# EAGLE library part NTGD3148N (library Discrete Semi - FETs - Arrays)
MOSFET 2N-CH 20V 3A 6TSOP 20 V, 3.5A, Dual N-Channel, TSOP-6 www.onsemi.com
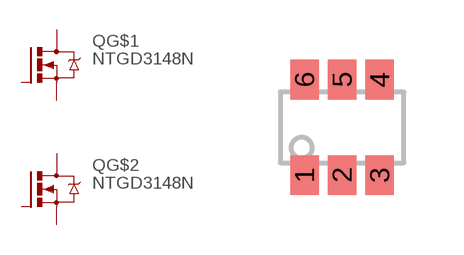
[diagram p1: symbol with the pads of TSOT-23-6; footprint TSOT-23-6]

Designator prefix Q; gates G$1=POWER-NMOSFET G$2=POWER-NMOSFET

## NTGD3148NT1G  [TSOT-23-6]
1  G$1:G  pas
2  G$2:S  pas
3  G$2:G  pas
4  G$2:D  pas
5  G$1:S  pas
6  G$1:D  pas

## Footprint TSOT-23-6 (pad centres in mm)
TSOP-6
smd 0.711 x 0.991: 1 -0.94,-1.194; 2 0,-1.194; 3 0.94,-1.194; 4 0.94,1.194; 5 0,1.194; 6 -0.94,1.194